# Altium footprint library IC_STMicroelectronics_VNH2SP30-E_eec_0.PcbLib: 1 footprints
Each footprint in its own frame and in the unit in brackets; x right, y up, seen from the top. Pads: shape width x height; smd on the part's side, far side on the other; paste and mask are expansions set on the pad; w line width, h text height; cw(c..) or ccw(c..) is an arc to the next point about the centre after c.
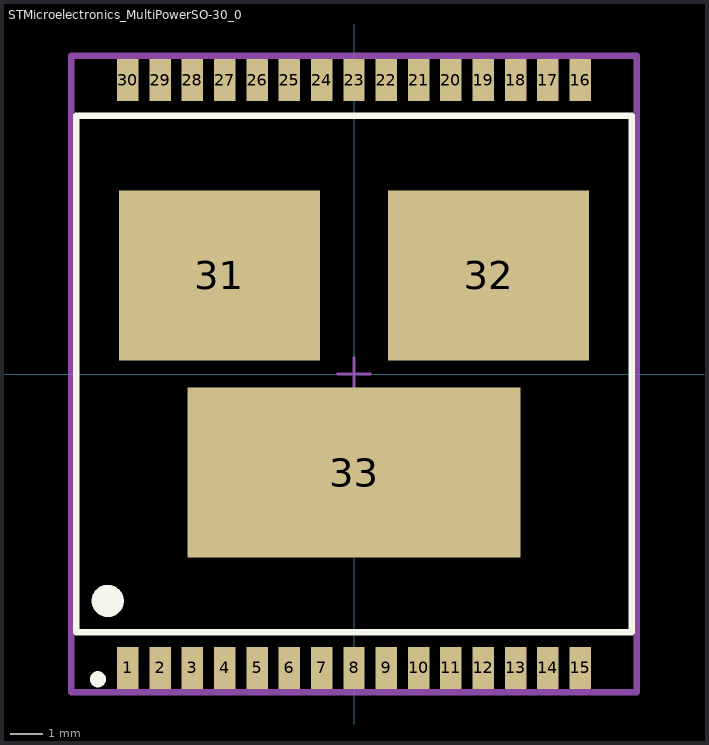
[diagram p0: the footprint, top view; thin cyan lines are the x and y axes]

## STMicroelectronics_MultiPowerSO-30_0 [mm]
pads (33):
  rect 0.665x1.3 smd paste+0 mask+0: 1(-7,-9.1) 2(-6,-9.1) 3(-5,-9.1) 4(-4,-9.1) 5(-3,-9.1) 6(-2,-9.1) 7(-1,-9.1) 8(0,-9.1) 9(1,-9.1) 10(2,-9.1) 11(3,-9.1) 12(4,-9.1) 13(5,-9.1) 14(6,-9.1) 15(7,-9.1) 16(7,9.1) 17(6,9.1) 18(5,9.1) 19(4,9.1) 20(3,9.1) 21(2,9.1) 22(1,9.1) 23(0,9.1) 24(-1,9.1) 25(-2,9.1) 26(-3,9.1) 27(-4,9.1) 28(-5,9.1) 29(-6,9.1) 30(-7,9.1)
  rect 6.23x5.25 smd paste+0 mask+0: 31(-4.165,3.05) 32(4.165,3.05)
  rect 10.3x5.25 smd paste+0 mask+0: 33(0,-3.05)
Top Overlay:
  circle w0.5: c-7.625,-7.025 r0.25
  circle w0.25: c-7.925,-9.45 r0.125
  lines w0.2: -8.6,-8 -8.6,8 8.6,8 8.6,-8 -8.6,-8
Mechanical 10:
  lines w0.2: -8.75,-9.85 -8.75,9.85 8.75,9.85 8.75,-9.85 -8.75,-9.85
  text ".Designator" at 0,0 h1
Mechanical 12:
  lines w0.15: -8.6,-8 -8.6,8 8.6,8 8.6,-8 -8.6,-8
Mechanical 15:
  lines w0.1: -0.5,0 0.5,0 ; 0,-0.5 0,0.5
  lines w0.2: -8.75,-9.85 -8.75,9.85 8.75,9.85 8.75,-9.85 -8.75,-9.85
3D body "3dmodel.step": height 0.25, standoff 0, extent -8.75,-9.85 8.75,9.85